# Altium schematic symbol library DAC.SchLib: 4 symbols
Pins are listed as number, name and electrical type; pins without a type are passive.

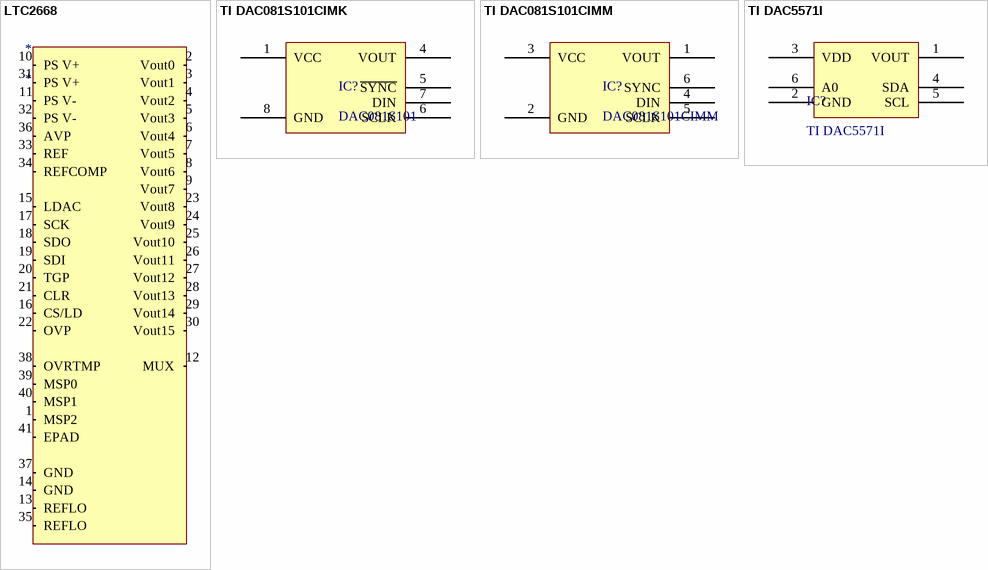
[diagram p0: symbols LTC2668 to TI DAC5571I]

## LTC2668
designator *
12 Bit Digital to Analog Converter 16 40-QFN (6x6)
pins: 1 MSP2, 2 Vout0 (out), 3 Vout1 (out), 4 Vout2 (out), 5 Vout3 (out), 6 Vout4 (out), 7 Vout5 (out), 8 Vout6 (out), 9 Vout7 (out), 10 PS V+ (power), 11 PS V- (power), 12 MUX (in), 13 REFLO, 14 GND, 15 LDAC (in), 16 CS/LD (in), 17 SCK (in), 18 SDO (in), 19 SDI (in), 20 TGP (in), 21 CLR (in), 22 OVP (in), 23 Vout8 (out), 24 Vout9 (out), 25 Vout10 (out), 26 Vout11 (out), 27 Vout12 (out), 28 Vout13 (out), 29 Vout14 (out), 30 Vout15 (out), 31 PS V+ (power), 32 PS V- (power), 33 REF (power), 34 REFCOMP (power), 35 REFLO, 36 AVP (power), 37 GND, 38 OVRTMP, 39 MSP0, 40 MSP1, 41 EPAD

## TI DAC081S101CIMK
designator IC?, comment DAC081S101
DAC081S101 8-Bit Micro Power Digital-to-Analog Converter with Rail-to-Rail Output
pins: 1 VCC, 4 VOUT, 5 ~{SYNC}, 6 SCLK, 7 DIN, 8 GND

## TI DAC081S101CIMM
designator IC?, comment DAC081S101CIMM
DAC081S101 8-Bit Micro Power Digital-to-Analog Converter with Rail-to-Rail Output
pins: 1 VOUT, 2 GND, 3 VCC, 4 DIN, 5 SCLK, 6 SYNC

## TI DAC5571I
designator IC?
+2.7 V to +5.5 V, I2C INTERFACE, VOLTAGE OUTPUT,  8-BIT DIGITAL-TO-ANALOG CONVERTER
pins: 1 VOUT, 2 GND, 3 VDD, 4 SDA, 5 SCL, 6 A0